# Altium footprint library PcbLib1.PcbLib: 9 footprints
Each footprint in its own frame and in the unit in brackets; x right, y up, seen from the top. Pads: shape width x height; smd on the part's side, far side on the other; paste and mask are expansions set on the pad; w line width, h text height; cw(c..) or ccw(c..) is an arc to the next point about the centre after c.
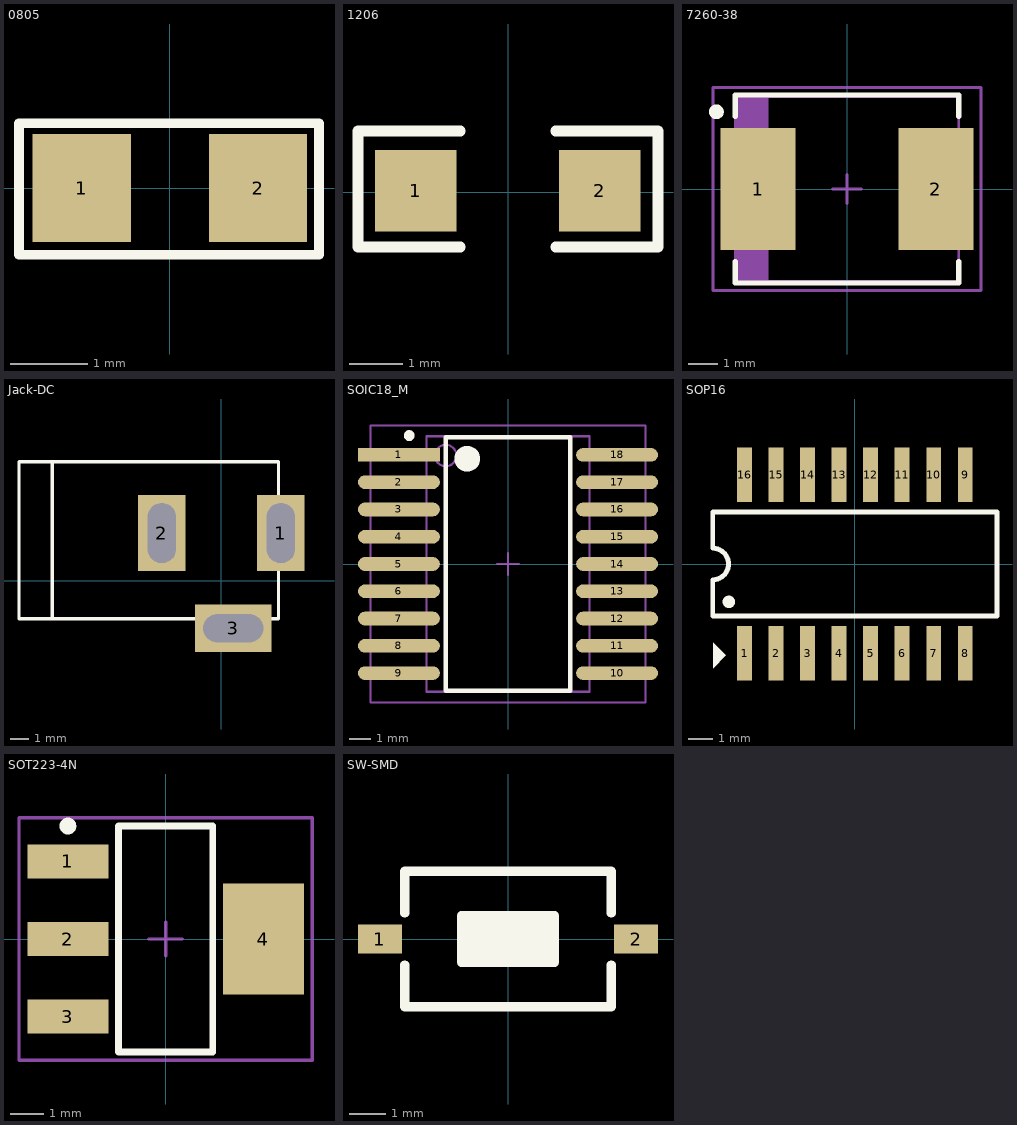
[diagram p0: the footprints below, top view; thin cyan lines are the x and y axes]

## 0805 [mil] "Compoment SMD 80x50mil"
height 50
pads (2):
  rect 50x55 smd: 1(-45,0) 2(45,0)
Top Overlay:
  lines w5: -77,-34 -77,33 76,33 76,-34 -77,-34
3D body: height 24.02, standoff -0.39, extent -39.76,-27 39.77,23

## 1206 [mil] "1206 SMD resistor"
pads (2):
  rect 60x60 smd: 1(-67.68,1.26) 2(67.32,1.26)
Top Overlay:
  lines w7.87: -35,-40 -110,-40 -110,45 -35,45 ; 35,-40 110,-40 110,45 35,45
3D body: height 22.85, standoff 0.6, extent -61.02,-30 61.02,31.1

## 7260-38 [mm] "Medium density IPC, based on Kemet T495 series dimension data"
height 3.8
pads (2):
  rect 2.55x4.15 smd: 1(-3.025,0) 2(3.025,0)
Top Overlay:
  circle w0.25: c-4.439,2.625 r0.125
  lines w0.178: -3.8,-2.464 -3.8,-3.2 3.8,-3.2 3.8,-2.464 ; -3.8,2.464 -3.8,3.2 3.8,3.2 3.8,2.464
Mechanical 5:
  rectangle: -3.8,-3.15 -2.725,3.15
  lines w0.1: -2.725,-3.15 -2.725,3.15 ; -3.8,-3.15 -3.8,3.15 3.8,3.15 3.8,-3.15 -3.8,-3.15
Mechanical 15:
  lines w0.1: -0.5,0 0.5,0 ; 0,-0.5 0,0.5 ; -4.55,-3.45 4.55,-3.45 4.55,3.45 -4.55,3.45 -4.55,-3.45
3D body: height 3.8, standoff 3.8, extent -3.799,-3.149 -2.726,3.149
3D body: height 3.8, standoff 0, extent -3.8,-3.15 3.8,3.15

## Jack-DC [mil] "Jack DC input"
height 200
pads (3):
  rect 100x160 hole 59.06 slot 125.98 at 90 deg: 1(125,100) 2(-125,100)
  rect 160x100 hole 59.06 slot 125.98 at 0 deg: 3(25,-100)
Top Overlay:
  lines w7: -355,-80 -355,250 ; -425,-80 -425,250 120,250 120,-80 -425,-80
3D body: height 433.67, standoff -137.2, extent -410.35,-105.12 134,269.12

## PCBComponent_1 [mil]

## SOIC18_M [mil] "SOIC, 18-Leads, Body 11.6x7.5mm, Pitch 1.27mm, IPC Low Density"
height 104.33
pads (18):
  rect 150x25 smd: 1(-200,200)
  oval 150x25 smd: 2(-200,150) 3(-200,100) 4(-200,50) 5(-200,0) 6(-200,-50) 7(-200,-100) 8(-200,-150) 9(-200,-200) 10(200,-200) 11(200,-150) 12(200,-100) 13(200,-50) 14(200,0) 15(200,50) 16(200,100) 17(200,150) 18(200,200)
Top Overlay:
  circle w23.62: c-74.8,192.91 r11.81
  circle w9.84: c-181.1,235.43 r4.92
  lines w7.87: -114.17,-232.28 114.17,-232.28 114.17,232.28 -114.17,232.28 -114.17,-232.28
Mechanical 13:
  circle w3.94: c-114.17,198.82 r19.68
  lines w3.94: -149.61,-234.25 149.61,-234.25 149.61,234.25 -149.61,234.25 -149.61,-234.25
Mechanical 15:
  lines w3.94: -19.68,0 19.69,0 ; 0,-19.68 0,19.68 ; -251.97,-253.94 251.97,-253.94 251.97,253.94 -251.97,253.94 -251.97,-253.94

## SOP16 [mm] "Small Outline; 16 Leads; Body Width 5.6 mm; Pitch 1.27 mm"
height 2
pads (16):
  rect 0.6x2.2 smd: 1(-4.445,-3.6) 2(-3.175,-3.6) 3(-1.905,-3.6) 4(-0.635,-3.6) 5(0.635,-3.6) 6(1.905,-3.6) 7(3.175,-3.6) 8(4.445,-3.6) 9(4.445,3.6) 10(3.175,3.6) 11(1.905,3.6) 12(0.635,3.6) 13(-0.635,3.6) 14(-1.905,3.6) 15(-3.175,3.6) 16(-4.445,3.6)
Top Overlay:
  circle w0.25: c-5.078,-1.524 r0.125
  region: -5.715,-4.191 -5.207,-3.683 -5.715,-3.175
  lines w0.2: -5.725,-2.1 5.725,-2.1 5.725,2.1 -5.725,2.1 -5.725,0.635 cw(c-5.725,0) -5.725,-0.635 -5.725,-2.1

## SOT223-4N [mm] "SOT223, 4-Leads, Body 6.5x3.5mm, Pitch 2.3mm, Lead Span 7mm, IPC Medium Density"
height 1.8
pads (4):
  rect 2.4x1 smd: 1(-2.9,2.3) 2(-2.9,0) 3(-2.9,-2.3)
  rect 2.4x3.3 smd: 4(2.9,0)
Top Overlay:
  circle w0.25: c-2.9,3.35 r0.125
  lines w0.2: -1.4,-3.35 -1.4,3.35 1.4,3.35 1.4,-3.35 -1.4,-3.35
Mechanical 15:
  lines w0.1: -0.5,0 0.5,0 ; 0,-0.5 0,0.5 ; -4.35,-3.6 -4.35,3.6 4.35,3.6 4.35,-3.6 -4.35,-3.6
3D body: height 1.72, standoff 0.02, extent -3.395,-3.274 3.496,3.226

## SW-SMD [mm] "Switch SMD type"
pads (2):
  rect 1.2x0.8 smd: 1(-3.5,0) 2(3.5,0)
Top Overlay:
  rectangle: -1.27,-0.635 1.27,0.635
  lines w0.254: -2.819,-0.711 -2.819,-1.854 2.819,-1.854 2.819,-0.711 ; -2.819,0.711 -2.819,1.854 2.819,1.854 2.819,0.711 ; -1.27,-0.635 -1.27,0.635 1.27,0.635 1.27,-0.635 -1.27,-0.635
3D body: height 2.5, standoff 0, extent -3.05,-1.85 3.05,1.85